# EAGLE library part X__JST_ZH_LIEGEND_6 (library ..SMD)
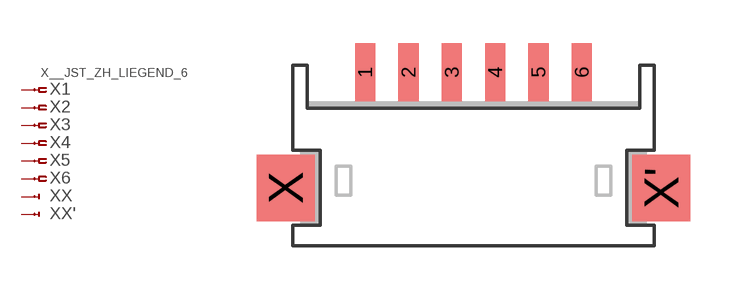
[diagram p371: symbol with the pads of JST_ZH_LIEGEND_6; footprint JST_ZH_LIEGEND_6]

Designator prefix X; gates 1=ZHPIN-NV 2=ZHPIN-N 3=ZHPIN-N 4=ZHPIN-N 5=ZHPIN-N 6=ZHPIN-N X=ZHPIN-X X'=ZHPIN-X

## X__JST_ZH_LIEGEND_6  [JST_ZH_LIEGEND_6]
1  1:1  pas
2  2:1  pas
3  3:1  pas
4  4:1  pas
5  5:1  pas
6  6:1  pas
X  X:1  pas
X'  X':1  pas

## Footprint JST_ZH_LIEGEND_6 (pad centres in mm)
smd 0.7 x 2: 1 0,0; 2 1.5,0; 3 3,0; 4 4.5,0; 5 6,0; 6 7.5,0
smd 2 x 2.3: X -2.75,-4; X' 10.25,-4